# Altium footprint library MCU.PcbLib: 9 footprints
Each footprint in its own frame and in the unit in brackets; x right, y up, seen from the top. Pads: shape width x height; smd on the part's side, far side on the other; paste and mask are expansions set on the pad; w line width, h text height; cw(c..) or ccw(c..) is an arc to the next point about the centre after c.
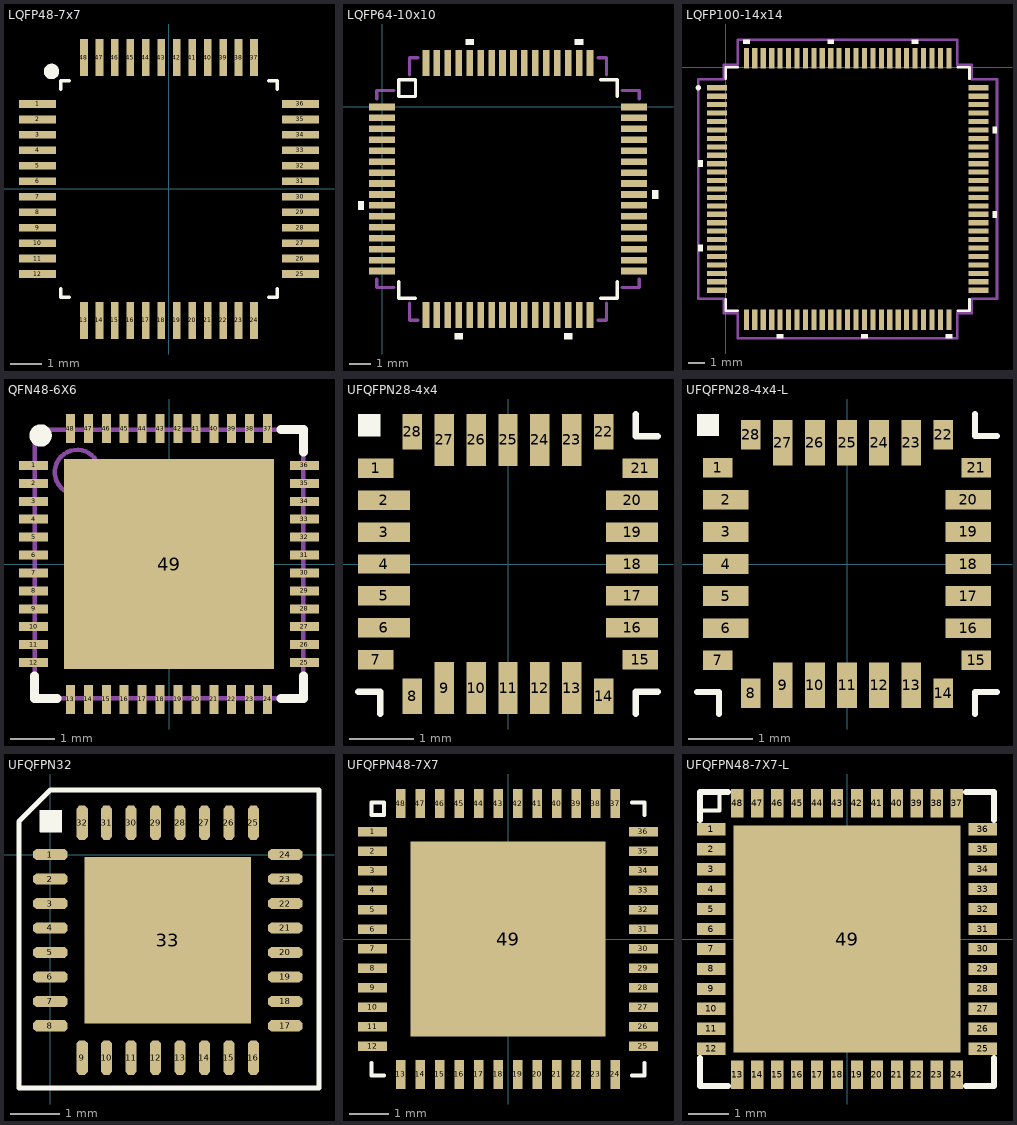
[diagram p0: the footprints below, top view; thin cyan lines are the x and y axes]

## LQFP48-7x7 [mm]
height 1.6
pads (48):
  rect 1.2x0.25 smd: 1(-4.25,2.75) 2(-4.25,2.25) 3(-4.25,1.75) 4(-4.25,1.25) 5(-4.25,0.75) 6(-4.25,0.25) 7(-4.25,-0.25) 8(-4.25,-0.75) 9(-4.25,-1.25) 10(-4.25,-1.75) 11(-4.25,-2.25) 12(-4.25,-2.75) 25(4.25,-2.75) 26(4.25,-2.25) 27(4.25,-1.75) 28(4.25,-1.25) 29(4.25,-0.75) 30(4.25,-0.25) 31(4.25,0.25) 32(4.25,0.75) 33(4.25,1.25) 34(4.25,1.75) 35(4.25,2.25) 36(4.25,2.75)
  rect 0.25x1.2 smd: 13(-2.75,-4.25) 14(-2.25,-4.25) 15(-1.75,-4.25) 16(-1.25,-4.25) 17(-0.75,-4.25) 18(-0.25,-4.25) 19(0.25,-4.25) 20(0.75,-4.25) 21(1.25,-4.25) 22(1.75,-4.25) 23(2.25,-4.25) 24(2.75,-4.25) 37(2.75,4.25) 38(2.25,4.25) 39(1.75,4.25) 40(1.25,4.25) 41(0.75,4.25) 42(0.25,4.25) 43(-0.25,4.25) 44(-0.75,4.25) 45(-1.25,4.25) 46(-1.75,4.25) 47(-2.25,4.25) 48(-2.75,4.25)
Top Overlay:
  circle w0.25: c-3.8,3.8 r0.125
  lines w0.1: -3.5,-3.226 -3.5,-3.5 -3.226,-3.5 ; -3.5,3.226 -3.5,3.5 -3.226,3.5 ; 3.226,-3.5 3.5,-3.5 3.5,-3.226 ; 3.226,3.5 3.5,3.5 3.5,3.226

## LQFP64-10x10 [mil] "exceed 0.35mm"
pads (64):
  rect 47x12 smd: 1(0,0) 2(0,-19.68) 3(0,-39.37) 4(0,-59.06) 5(0,-78.74) 6(0,-98.43) 7(0,-118.11) 8(0,-137.8) 9(0,-157.48) 10(0,-177.17) 11(0,-196.85) 12(0,-216.54) 13(0,-236.22) 14(0,-255.91) 15(0,-275.59) 16(0,-295.28) 33(452.76,-295.28) 34(452.76,-275.59) 35(452.76,-255.91) 36(452.76,-236.22) 37(452.76,-216.54) 38(452.76,-196.85) 39(452.76,-177.17) 40(452.76,-157.48) 41(452.76,-137.8) 42(452.76,-118.11) 43(452.76,-98.43) 44(452.76,-78.74) 45(452.76,-59.06) 46(452.76,-39.37) 47(452.76,-19.68) 48(452.76,0)
  rect 12x47 smd: 17(78.74,-374.02) 18(98.43,-374.02) 19(118.11,-374.02) 20(137.8,-374.02) 21(157.48,-374.02) 22(177.17,-374.02) 23(196.85,-374.02) 24(216.54,-374.02) 25(236.22,-374.02) 26(255.91,-374.02) 27(275.59,-374.02) 28(295.28,-374.02) 29(314.96,-374.02) 30(334.65,-374.02) 31(354.33,-374.02) 32(374.02,-374.02) 49(374.02,78.74) 50(354.33,78.74) 51(334.65,78.74) 52(314.96,78.74) 53(295.28,78.74) 54(275.59,78.74) 55(255.91,78.74) 56(236.22,78.74) 57(216.54,78.74) 58(196.85,78.74) 59(177.17,78.74) 60(157.48,78.74) 61(137.8,78.74) 62(118.11,78.74) 63(98.43,78.74) 64(78.74,78.74)
Top Overlay:
  region: 164.98,112.24 149.98,112.24 149.98,122.24 164.98,122.24
  region: 361.83,112.24 346.83,112.24 346.83,122.24 361.83,122.24
  region: 486.26,-149.98 496.26,-149.98 496.26,-164.98 486.26,-164.98
  region: 342.15,-407.52 327.15,-407.52 327.15,-417.52 342.15,-417.52
  region: 145.3,-407.52 130.3,-407.52 130.3,-417.52 145.3,-417.52
  region: -33.5,-169.67 -43.5,-169.67 -43.5,-184.67 -33.5,-184.67
  lines w5.98: 29.53,-314.02 29.53,-344.49 60,-344.49 ; 392.76,-344.49 423.23,-344.49 423.23,-314.02 ; 392.76,49.21 423.23,49.21 423.23,18.74 ; 29.53,18.74 60,18.74 60,49.21 29.53,49.21 29.53,18.74
Mechanical 15:
  lines w5.98: -9.84,-309.86 -9.84,-324.79 21.23,-324.79 ; -9.84,14.58 -9.84,29.51 21.23,29.51 ; 49.23,-352.79 49.23,-383.86 64.16,-383.86 ; 49.23,57.51 49.23,88.58 64.16,88.58 ; 388.6,-383.86 403.53,-383.86 403.53,-352.79 ; 388.6,88.58 403.53,88.58 403.53,57.51 ; 431.53,-324.79 462.6,-324.79 462.6,-309.86 ; 431.53,29.51 462.6,29.51 462.6,14.58

## LQFP100-14x14 [mil]
pads (100):
  rect 47x12 smd: 1(-20.62,-48.28) 2(-20.62,-67.96) 3(-20.62,-87.65) 4(-20.62,-107.33) 5(-20.62,-127.02) 6(-20.62,-146.7) 7(-20.62,-166.39) 8(-20.62,-186.07) 9(-20.62,-205.76) 10(-20.62,-225.44) 11(-20.62,-245.13) 12(-20.62,-264.81) 13(-20.62,-284.5) 14(-20.62,-304.19) 15(-20.62,-323.87) 16(-20.62,-343.56) 17(-20.62,-363.24) 18(-20.62,-382.93) 19(-20.62,-402.61) 20(-20.62,-422.3) 21(-20.62,-441.98) 22(-20.62,-461.67) 23(-20.62,-481.35) 24(-20.62,-501.04) 25(-20.62,-520.72) 51(589.62,-520.72) 52(589.62,-501.04) 53(589.62,-481.35) 54(589.62,-461.67) 55(589.62,-441.98) 56(589.62,-422.3) 57(589.62,-402.61) 58(589.62,-382.93) 59(589.62,-363.24) 60(589.62,-343.56) 61(589.62,-323.87) 62(589.62,-304.19) 63(589.62,-284.5) 64(589.62,-264.81) 65(589.62,-245.13) 66(589.62,-225.44) 67(589.62,-205.76) 68(589.62,-186.07) 69(589.62,-166.39) 70(589.62,-146.7) 71(589.62,-127.02) 72(589.62,-107.33) 73(589.62,-87.65) 74(589.62,-67.96) 75(589.62,-48.28)
  rect 12x47 smd: 26(48.28,-589.62) 27(67.96,-589.62) 28(87.65,-589.62) 29(107.33,-589.62) 30(127.02,-589.62) 31(146.7,-589.62) 32(166.39,-589.62) 33(186.07,-589.62) 34(205.76,-589.62) 35(225.44,-589.62) 36(245.13,-589.62) 37(264.81,-589.62) 38(284.5,-589.62) 39(304.19,-589.62) 40(323.87,-589.62) 41(343.56,-589.62) 42(363.24,-589.62) 43(382.93,-589.62) 44(402.61,-589.62) 45(422.3,-589.62) 46(441.98,-589.62) 47(461.67,-589.62) 48(481.35,-589.62) 49(501.04,-589.62) 50(520.72,-589.62) 76(520.72,20.62) 77(501.04,20.62) 78(481.35,20.62) 79(461.67,20.62) 80(441.98,20.62) 81(422.3,20.62) 82(402.61,20.62) 83(382.93,20.62) 84(363.24,20.62) 85(343.56,20.62) 86(323.87,20.62) 87(304.19,20.62) 88(284.5,20.62) 89(264.81,20.62) 90(245.13,20.62) 91(225.44,20.62) 92(205.76,20.62) 93(186.07,20.62) 94(166.39,20.62) 95(146.7,20.62) 96(127.02,20.62) 97(107.33,20.62) 98(87.65,20.62) 99(67.96,20.62) 100(48.28,20.62)
Top Overlay:
  circle w6: c-63.96,-48.28 r3
  region: -54.12,-217.94 -64.12,-217.94 -64.12,-232.94 -54.12,-232.94
  region: -54.12,-414.8 -64.12,-414.8 -64.12,-429.8 -54.12,-429.8
  region: 134.52,-623.12 119.52,-623.12 119.52,-633.12 134.52,-633.12
  region: 331.37,-623.12 316.37,-623.12 316.37,-633.12 331.37,-633.12
  region: 528.22,-623.12 513.22,-623.12 513.22,-633.12 528.22,-633.12
  region: 623.12,-336.06 633.12,-336.06 633.12,-351.06 623.12,-351.06
  region: 623.12,-139.2 633.12,-139.2 633.12,-154.2 623.12,-154.2
  region: 449.48,54.12 434.48,54.12 434.48,64.12 449.48,64.12
  region: 252.63,54.12 237.63,54.12 237.63,64.12 252.63,64.12
  region: 55.78,54.12 40.78,54.12 40.78,64.12 55.78,64.12
  lines w6: 0,-541.44 0,-569 27.56,-569 ; 0,-27.56 0,0 27.56,0 ; 541.44,-569 569,-569 569,-541.44 ; 541.44,0 569,0 569,-27.56
Mechanical 15:
  lines w6: -64.12,-540.72 -5,-540.72 -5,-574 28.28,-574 28.28,-633.12 540.72,-633.12 540.72,-574 574,-574 574,-540.72 633.12,-540.72 633.12,-28.28 574,-28.28 574,5 540.72,5 540.72,64.12 28.28,64.12 28.28,5 -5,5 -5,-28.28 -64.12,-28.28 -64.12,-540.72

## QFN48-6X6 [mm] "nordic   6.7  exceed 0.35mm   pitch 0.4mm"
pads (49):
  rect 0.65x0.2 smd: 1(-3.025,2.2) 2(-3.025,1.8) 3(-3.025,1.4) 4(-3.025,1) 5(-3.025,0.6) 6(-3.025,0.2) 7(-3.025,-0.2) 8(-3.025,-0.6) 9(-3.025,-1) 10(-3.025,-1.4) 11(-3.025,-1.8) 12(-3.025,-2.2) 25(3.025,-2.2) 26(3.025,-1.8) 27(3.025,-1.4) 28(3.025,-1) 29(3.025,-0.6) 30(3.025,-0.2) 31(3.025,0.2) 32(3.025,0.6) 33(3.025,1) 34(3.025,1.4) 35(3.025,1.8) 36(3.025,2.2)
  rect 0.2x0.65 smd: 13(-2.2,-3.025) 14(-1.8,-3.025) 15(-1.4,-3.025) 16(-1,-3.025) 17(-0.6,-3.025) 18(-0.2,-3.025) 19(0.2,-3.025) 20(0.6,-3.025) 21(1,-3.025) 22(1.4,-3.025) 23(1.8,-3.025) 24(2.2,-3.025) 37(2.2,3.025) 38(1.8,3.025) 39(1.4,3.025) 40(1,3.025) 41(0.6,3.025) 42(0.2,3.025) 43(-0.2,3.025) 44(-0.6,3.025) 45(-1,3.025) 46(-1.4,3.025) 47(-1.8,3.025) 48(-2.2,3.025)
  rect 4.7x4.7 smd: 49(0,0)
Top Overlay:
  circle w0.25: c-2.868,2.87 r0.125
  lines w0.2: -3,-2.5 -3,-3 -2.5,-3 ; 2.5,-3 3,-3 3,-2.5 ; 2.5,3 3,3 3,2.5
Mechanical 13:
  circle w0.1: c-2.05,2.05 r0.5
  lines w0.1: -3,-3 -3,3 3,3 3,-3 -3,-3
Mechanical 15:
  lines w0.1: -0.5,0 0.5,0 ; 0,-0.5 0,0.5
3D body: height 0.9, standoff 0, extent -3,-3 3,3

## UFQFPN28-4x4 [mil] "4.7x4.7mm  exceed 0.35mm"
pads (28):
  rect 22x12 smd paste-6: 1(-81.5,59.06) 7(-81.5,-59.06) 15(81.5,-59.06) 21(81.5,59.06)
  rect 32x12 smd: 2(-76.5,39.37) 3(-76.5,19.68) 4(-76.5,0) 5(-76.5,-19.68) 6(-76.5,-39.37) 16(76.5,-39.37) 17(76.5,-19.68) 18(76.5,0) 19(76.5,19.68) 20(76.5,39.37)
  rect 12x22 smd paste-6: 8(-59.06,-81.5) 14(59.06,-81.5) 22(59.06,81.5) 28(-59.06,81.5)
  rect 12x32 smd: 9(-39.37,-76.5) 10(-19.68,-76.5) 11(0,-76.5) 12(19.68,-76.5) 13(39.37,-76.5) 23(39.37,76.5) 24(19.68,76.5) 25(0,76.5) 26(-19.68,76.5) 27(-39.37,76.5)
Top Overlay:
  region: -92.26,78.74 -92.26,92.26 -78.74,92.26 -78.74,78.74
  lines w3.94: -92.26,-78.74 -78.74,-78.74 -78.74,-92.26 ; 78.74,-92.26 78.74,-78.74 92.26,-78.74 ; 78.74,92.26 78.74,78.74 92.26,78.74

## UFQFPN28-4x4-L [mil] "more little 4.5x4.5mm exceed 0.25mm"
pads (28):
  rect 18x12 smd: 1(-79.5,59.06) 7(-79.5,-59.06) 15(79.5,-59.06) 21(79.5,59.06)
  rect 28x12 smd: 2(-74.5,39.37) 3(-74.5,19.68) 4(-74.5,0) 5(-74.5,-19.68) 6(-74.5,-39.37) 16(74.5,-39.37) 17(74.5,-19.68) 18(74.5,0) 19(74.5,19.68) 20(74.5,39.37)
  rect 12x18 smd: 8(-59.06,-79.5) 14(59.06,-79.5) 22(59.06,79.5) 28(-59.06,79.5)
  rect 12x28 smd: 9(-39.37,-74.5) 10(-19.68,-74.5) 11(0,-74.5) 12(19.68,-74.5) 13(39.37,-74.5) 23(39.37,74.5) 24(19.68,74.5) 25(0,74.5) 26(-19.68,74.5) 27(-39.37,74.5)
Top Overlay:
  region: -92.26,78.74 -92.26,92.26 -78.74,92.26 -78.74,78.74
  lines w3.94: -92.26,-78.74 -78.74,-78.74 -78.74,-92.26 ; 78.74,-92.26 78.74,-78.74 92.26,-78.74 ; 78.74,92.26 78.74,78.74 92.26,78.74

## UFQFPN32 [mm]
pads (33):
  oct 0.7x0.23 smd: 1(0,0) 2(0,-0.5) 3(0,-1) 4(0,-1.5) 5(0,-2) 6(0,-2.5) 7(0,-3) 8(0,-3.5) 17(4.8,-3.5) 18(4.8,-3) 19(4.8,-2.5) 20(4.8,-2) 21(4.8,-1.5) 22(4.8,-1) 23(4.8,-0.5) 24(4.8,0)
  oct 0.23x0.7 smd: 9(0.65,-4.15) 10(1.15,-4.15) 11(1.65,-4.15) 12(2.15,-4.15) 13(2.65,-4.15) 14(3.15,-4.15) 15(3.65,-4.15) 16(4.15,-4.15) 25(4.15,0.65) 26(3.65,0.65) 27(3.15,0.65) 28(2.65,0.65) 29(2.15,0.65) 30(1.65,0.65) 31(1.15,0.65) 32(0.65,0.65)
  rect 3.4x3.4 smd: 33(2.4,-1.75)
Top Overlay:
  rectangle: -0.205,0.47 0.23,0.905
  lines w0.025: -0.205,0.905 -0.205,0.47 0.23,0.47 ; -0.202,0.905 0.233,0.905 0.233,0.47
  lines w0.1: -0.64,-4.77 -0.64,0.68 0,1.32 5.49,1.32 5.49,-4.77 -0.64,-4.77

## UFQFPN48-7X7 [mm] "7.7  exceed ultra thin 0.35mm   pitch0.5  引脚宽0.25  适合stm32f401 引脚0.8 压下面0.45 外面0.35"
height 0.5
pads (49):
  rect 0.75x0.25 smd: 1(-3.475,2.75) 2(-3.475,2.25) 3(-3.475,1.75) 4(-3.475,1.25) 5(-3.475,0.75) 6(-3.475,0.25) 7(-3.475,-0.25) 8(-3.475,-0.75) 9(-3.475,-1.25) 10(-3.475,-1.75) 11(-3.475,-2.25) 12(-3.475,-2.75) 25(3.475,-2.75) 26(3.475,-2.25) 27(3.475,-1.75) 28(3.475,-1.25) 29(3.475,-0.75) 30(3.475,-0.25) 31(3.475,0.25) 32(3.475,0.75) 33(3.475,1.25) 34(3.475,1.75) 35(3.475,2.25) 36(3.475,2.75)
  rect 0.25x0.75 smd: 13(-2.75,-3.475) 14(-2.25,-3.475) 15(-1.75,-3.475) 16(-1.25,-3.475) 17(-0.75,-3.475) 18(-0.25,-3.475) 19(0.25,-3.475) 20(0.75,-3.475) 21(1.25,-3.475) 22(1.75,-3.475) 23(2.25,-3.475) 24(2.75,-3.475) 37(2.75,3.475) 38(2.25,3.475) 39(1.75,3.475) 40(1.25,3.475) 41(0.75,3.475) 42(0.25,3.475) 43(-0.25,3.475) 44(-0.75,3.475) 45(-1.25,3.475) 46(-1.75,3.475) 47(-2.25,3.475) 48(-2.75,3.475)
  rect 5x5 smd paste-2.832: 49(0,0)
Top Overlay:
  lines w0.1: -3.5,-3.183 -3.5,-3.5 -3.183,-3.5 ; 3.183,-3.5 3.5,-3.5 3.5,-3.183 ; 3.183,3.5 3.5,3.5 3.5,3.183 ; -3.5,3.183 -3.183,3.183 -3.183,3.5 -3.5,3.5 -3.5,3.183

## UFQFPN48-7X7-L [mil] "little  7.5  exceed 0.25mm"
pads (49):
  rect 28x12 smd: 1(-134,108.27) 2(-134,88.58) 3(-134,68.9) 4(-134,49.21) 5(-134,29.53) 6(-134,9.84) 7(-134,-9.84) 8(-134,-29.53) 9(-134,-49.21) 10(-134,-68.9) 11(-134,-88.58) 12(-134,-108.27) 25(134,-108.27) 26(134,-88.58) 27(134,-68.9) 28(134,-49.21) 29(134,-29.53) 30(134,-9.84) 31(134,9.84) 32(134,29.53) 33(134,49.21) 34(134,68.9) 35(134,88.58) 36(134,108.27)
  rect 12x28 smd: 13(-108.27,-134) 14(-88.58,-134) 15(-68.9,-134) 16(-49.21,-134) 17(-29.53,-134) 18(-9.84,-134) 19(9.84,-134) 20(29.53,-134) 21(49.21,-134) 22(68.9,-134) 23(88.58,-134) 24(108.27,-134) 37(108.27,134) 38(88.58,134) 39(68.9,134) 40(49.21,134) 41(29.53,134) 42(9.84,134) 43(-9.84,134) 44(-29.53,134) 45(-49.21,134) 46(-68.9,134) 47(-88.58,134) 48(-108.27,134)
  rect 224x224 smd paste-111.5: 49(0,0)
Top Overlay:
  lines w3.94: -145,127 -126,127 -126,145 -145,145
  lines w6: -145,-117.27 -145,-145 -117.27,-145 ; -145,117.27 -145,145 -117.27,145 ; 117.27,-145 145,-145 145,-117.27 ; 117.27,145 145,145 145,117.27
Top Paste:
  region: 108.06,-59.94 59.94,-59.94 59.94,-108.06 108.06,-108.06
  region: 108.06,-3.94 59.94,-3.94 59.94,-52.06 108.06,-52.06
  region: 108.06,52.06 59.94,52.06 59.94,3.94 108.06,3.94
  region: 108.06,108.06 59.94,108.06 59.94,59.94 108.06,59.94
  region: 52.06,-59.94 3.94,-59.94 3.94,-108.06 52.06,-108.06
  region: 52.06,-3.94 3.94,-3.94 3.94,-52.06 52.06,-52.06
  region: 52.06,52.06 3.94,52.06 3.94,3.94 52.06,3.94
  region: 52.06,108.06 3.94,108.06 3.94,59.94 52.06,59.94
  region: -3.94,-59.94 -52.06,-59.94 -52.06,-108.06 -3.94,-108.06
  region: -3.94,-3.94 -52.06,-3.94 -52.06,-52.06 -3.94,-52.06
  region: -3.94,52.06 -52.06,52.06 -52.06,3.94 -3.94,3.94
  region: -3.94,108.06 -52.06,108.06 -52.06,59.94 -3.94,59.94
  region: -59.94,-59.94 -108.06,-59.94 -108.06,-108.06 -59.94,-108.06
  region: -59.94,-3.94 -108.06,-3.94 -108.06,-52.06 -59.94,-52.06
  region: -59.94,52.06 -108.06,52.06 -108.06,3.94 -59.94,3.94
  region: -59.94,108.06 -108.06,108.06 -108.06,59.94 -59.94,59.94
3D body: height 10, standoff 0, extent 0,0 10,10